# Altium schematic symbol library SCH - SWITCHES - 218-2LPSTR.SchLib: 1 symbol
Pins are listed as number, name and electrical type; pins without a type are passive.

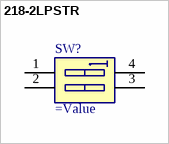
[diagram p0: symbol 218-2LPSTR]

## 218-2LPSTR
designator SW?
DIP Switches / SIP Switches SPST 2 switch sections/002
pins: 1, 2, 3, 4